# EAGLE library part PAM8302AASCR (library PAM8302AASCR)
Amplifier IC 1-Channel (Mono) Class D 8-MSOP Source: Datasheet <https://www.diodes.com/assets/Datasheets/PAM8302A.pdf>
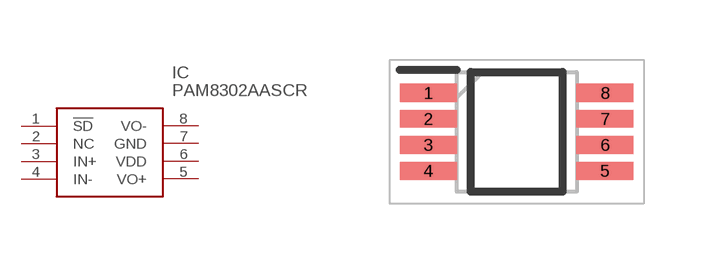
[diagram p0: symbol with the pads of SOP65P490X110-8N; footprint SOP65P490X110-8N]

Designator prefix IC

## PAM8302AASCR (Description: Amplifier IC 1-Channel (Mono) Class D 8-MSOP; Height: 1.1mm; Manufacturer_Name: Diodes Incorporated; Manufacturer_Part_Number: PAM8302AASCR; Mouser_Part_Number: 621-PAM8302AASCR; Mouser_Price-Stock: https://www.mouser.co.uk/ProductDetail/Diodes-Incorporated/PAM8302AASCR?qs=pYVYkI7xuRXTVZEQSGcDyg%3D%3D)  [SOP65P490X110-8N]
1  !SD
2  NC  nc
3  IN+
4  IN-
5  VO+
6  VDD
7  GND
8  VO-

## Footprint SOP65P490X110-8N (pad centres in mm)
MSOP-8_2024-1
smd 1.425 x 0.45: 1 -2.212,0.975; 2 -2.212,0.325; 3 -2.212,-0.325; 4 -2.212,-0.975; 5 2.212,-0.975; 6 2.212,-0.325; 7 2.212,0.325; 8 2.212,0.975